# Altium schematic symbol library microUSB.SchLib: 1 symbol
Pins are listed as number, name and electrical type; pins without a type are passive.

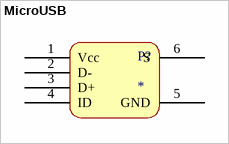
[diagram p0: symbol MicroUSB]

## MicroUSB
designator P?
footprint microUSB
pins: 1 Vcc, 2 D-, 3 D+, 4 ID, 5 GND, 6 S